# Altium integrated library MX-53048.IntLib: 5 symbols
Pins are listed as number, name and electrical type; pins without a type are passive.

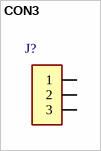
[diagram p0: symbol CON3]

## CON3
designator J?, comment 0530480310  (value not drawn)
ID: 0530480310; PDF: http://www.molex.com/pdm_docs/sd/530480310_sd.pdf; PRICE: 0.43000; BUY_LINK: http://www.digikey.com/product-detail/en/0530480310/WM1743-ND/242865
footprint 0530480310
pins: 1, 2, 3


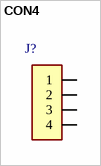
[diagram p1: symbol CON4]

## CON4
designator J?, comment 0530480410  (value not drawn)
ID: 0530480410; PDF: http://www.molex.com/pdm_docs/sd/530480410_sd.pdf; PRICE: 0.50000; BUY_LINK: http://www.digikey.com/product-detail/en/0530480410/WM1744-ND/242866
footprint 0530480410
pins: 1, 2, 3, 4


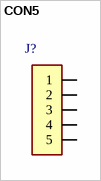
[diagram p2: symbol CON5]

## CON5
designator J?, comment 0.64000  (value not drawn)
ID: 0.64000; PDF: http://www.molex.com/pdm_docs/sd/530480510_sd.pdf; PRICE: 0530480510; BUY_LINK: http://www.digikey.com/product-detail/en/0530480510/WM1745-ND/242867
footprint 0530480510
pins: 1, 2, 3, 4, 5


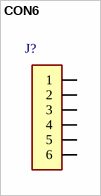
[diagram p3: symbol CON6]

## CON6
designator J?, comment 0530480610  (value not drawn)
ID: 0530480610; PDF: http://www.molex.com/pdm_docs/sd/530480610_sd.pdf; PRICE: 0.72000; BUY_LINK: http://www.digikey.com/product-detail/en/0527450697/WM7972CT-ND/2074161
footprint 0530480610
pins: 1, 2, 3, 4, 5, 6


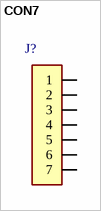
[diagram p4: symbol CON7]

## CON7
designator J?, comment 0530480710  (value not drawn)
ID: 0530480710; PDF: http://www.molex.com/pdm_docs/sd/530480710_sd.pdf; PRICE: 0.73000; BUY_LINK: http://www.digikey.com/product-detail/en/0530480710/WM1747-ND/242869
footprint 0530480710
pins: 1, 2, 3, 4, 5, 6, 7